# Altium schematic symbol library PIC16F877A.SchLib: 1 symbol
Pins are listed as number, name and electrical type; pins without a type are passive.

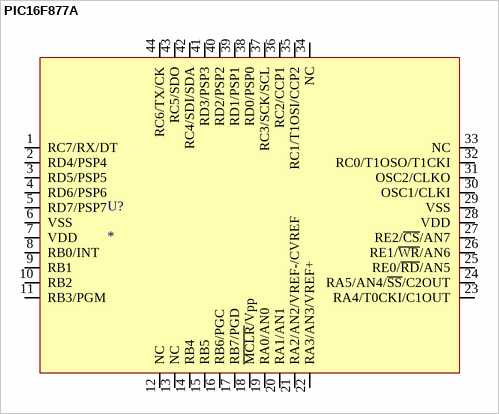
[diagram p0: symbol PIC16F877A]

## PIC16F877A
designator U?
Microcontroller PIC16F877A TQFP; Digi-Key Part Number: PIC16F877AT-I/PTCT-ND
footprint PIC16F877A (44Pin-TQFP)
pins: 1 RC7/RX/DT, 2 RD4/PSP4, 3 RD5/PSP5, 4 RD6/PSP6, 5 RD7/PSP7, 6 VSS, 7 VDD, 8 RB0/INT, 9 RB1, 10 RB2, 11 RB3/PGM, 12 NC, 13 NC, 14 RB4, 15 RB5, 16 RB6/PGC, 17 RB7/PGD, 18 ~{MCLR}/Vpp, 19 RA0/AN0, 20 RA1/AN1, 21 RA2/AN2/VREF-/CVREF, 22 RA3/AN3/VREF+, 23 RA4/T0CKI/C1OUT, 24 RA5/AN4/~{SS}/C2OUT, 25 RE0/~{RD}/AN5, 26 RE1/~{WR}/AN6, 27 RE2/~{CS}/AN7, 28 VDD, 29 VSS, 30 OSC1/CLKI, 31 OSC2/CLKO, 32 RC0/T1OSO/T1CKI, 33 NC, 34 NC, 35 RC1/T1OSI/CCP2, 36 RC2/CCP1, 37 RC3/SCK/SCL, 38 RD0/PSP0, 39 RD1/PSP1, 40 RD2/PSP2, 41 RD3/PSP3, 42 RC4/SDI/SDA, 43 RC5/SDO, 44 RC6/TX/CK